# Altium schematic symbol library K145IK1901.SchLib: 2 symbols
Pins are listed as number, name and electrical type; pins without a type are passive.

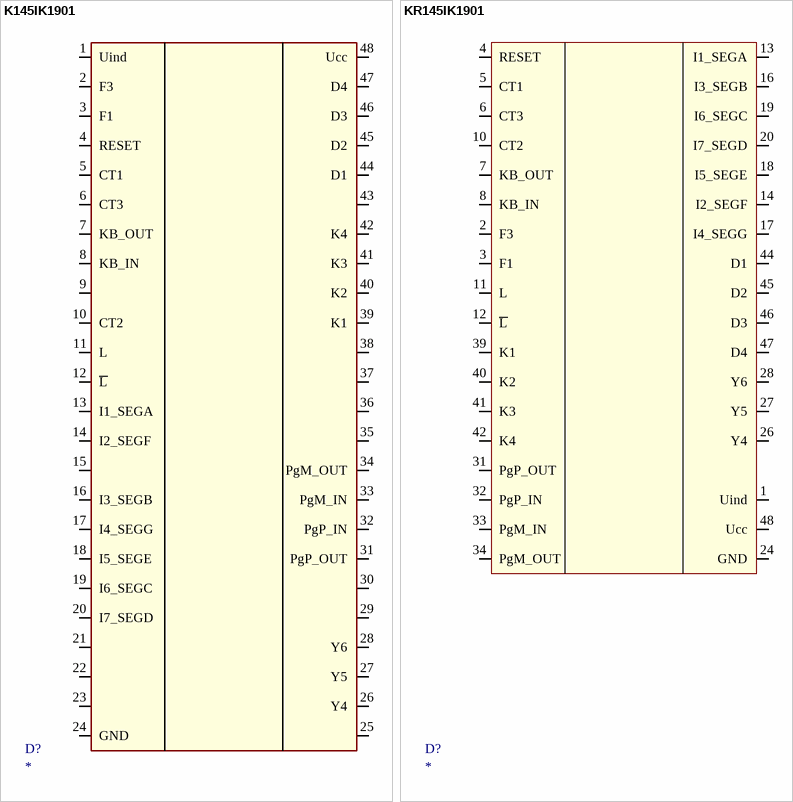
[diagram p0: symbols K145IK1901 to KR145IK1901]

## K145IK1901
designator D?
footprint KR145IK1901
pins: 1 Uind, 2 F3, 3 F1, 4 RESET, 5 CT1, 6 CT3, 7 KB_OUT, 8 KB_IN, 9, 10 CT2, 11 L, 12 ~{L}, 13 I1_SEGA, 14 I2_SEGF, 15, 16 I3_SEGB, 17 I4_SEGG, 18 I5_SEGE, 19 I6_SEGC, 20 I7_SEGD, 21, 22, 23, 24 GND, 25, 26 Y4, 27 Y5, 28 Y6, 29, 30, 31 PgP_OUT, 32 PgP_IN, 33 PgM_IN, 34 PgM_OUT, 35, 36, 37, 38, 39 K1, 40 K2, 41 K3, 42 K4, 43, 44 D1, 45 D2, 46 D3, 47 D4, 48 Ucc

## KR145IK1901
designator D?
footprint KR145IK1901
pins: 1 Uind, 2 F3, 3 F1, 4 RESET, 5 CT1, 6 CT3, 7 KB_OUT, 8 KB_IN, 10 CT2, 11 L, 12 ~{L}, 13 I1_SEGA, 14 I2_SEGF, 16 I3_SEGB, 17 I4_SEGG, 18 I5_SEGE, 19 I6_SEGC, 20 I7_SEGD, 24 GND, 26 Y4, 27 Y5, 28 Y6, 31 PgP_OUT, 32 PgP_IN, 33 PgM_IN, 34 PgM_OUT, 39 K1, 40 K2, 41 K3, 42 K4, 44 D1, 45 D2, 46 D3, 47 D4, 48 Ucc